# Altium footprint library Advanced_Photonics.PcbLib: 1 footprints
Each footprint in its own frame and in the unit in brackets; x right, y up, seen from the top. Pads: shape width x height; smd on the part's side, far side on the other; paste and mask are expansions set on the pad; w line width, h text height; cw(c..) or ccw(c..) is an arc to the next point about the centre after c.
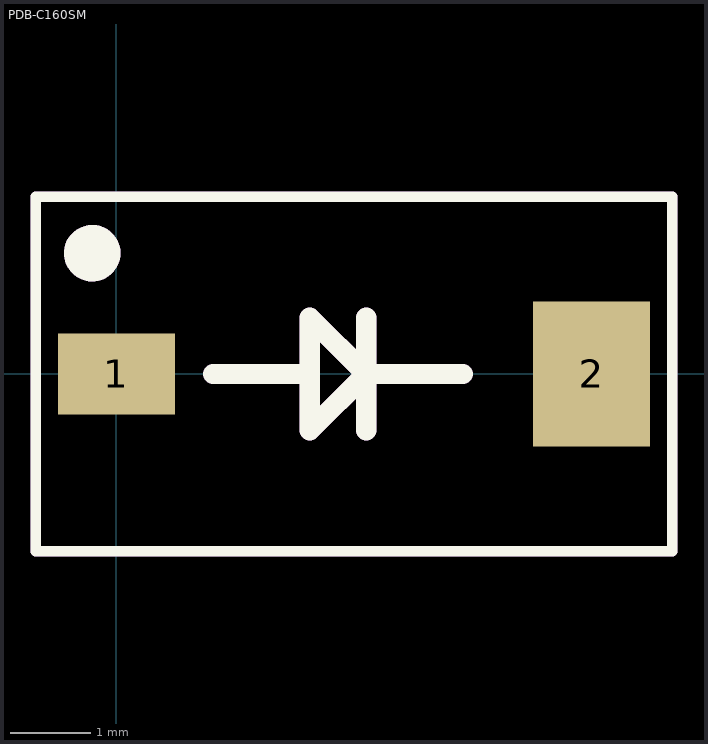
[diagram p0: the footprint, top view; thin cyan lines are the x and y axes]

## PDB-C160SM [mm] "Photodiode"
pads (2):
  rect 1.45x1 smd: 1(0,0)
  rect 1.45x1.8 smd: 2(5.9,0)
Top Overlay:
  circle w0.5: c-0.3,1.5 r0.1
  lines w0.127: -1,-2.2 6.9,-2.2 6.9,2.2 -1,2.2 -1,-2.2
  lines w0.254: 1.2,0 2.4,0 ; 3.1,-0.7 3.1,0.7 3.1,0 ; 4.3,0 3.1,0 ; 3.1,0 2.4,-0.7 2.4,0.7 3.1,0
Bottom Courtyard:
  circle w0.5: c-0.3,1.5 r0.1
  lines w0.127: -1,-2.2 -1,2.2 6.9,2.2 6.9,-2.2 -1,-2.2
  lines w0.254: 1.2,0 2.4,0 ; 3.1,-0.7 3.1,0.7 3.1,0 ; 4.3,0 3.1,0 ; 3.1,0 2.4,0.7 2.4,-0.7 3.1,0
3D body "photodiode.SLDPRT": height 1.15, standoff -0.06, extent -0.294,-1.871 6.182,1.969